# Altium integrated library AD8668ARUZ.IntLib: 1 symbol
Pins are listed as number, name and electrical type; pins without a type are passive.

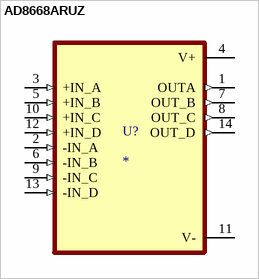
[diagram p0: symbol AD8668ARUZ]

## AD8668ARUZ
designator U?
MP: AD8668ARUZ; Package: None; Price: None; Value: *; Availability: Unavailable
footprint SOP65P640X120-14N
pins: 1 OUTA (out), 2 -IN_A (in), 3 +IN_A (in), 4 V+ (power), 5 +IN_B (in), 6 -IN_B (in), 7 OUT_B (out), 8 OUT_C (out), 9 -IN_C (in), 10 +IN_C (in), 11 V- (power), 12 +IN_D (in), 13 -IN_D (in), 14 OUT_D (out)